# EAGLE library part 1X6 (library headers(2mm))
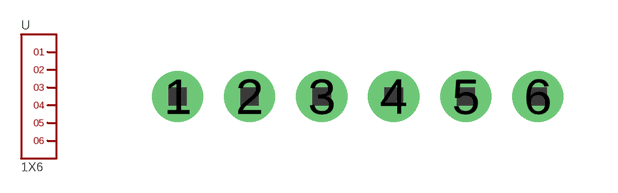
[diagram p0: symbol with the pads of 1X6; footprint 1X6]

Designator prefix -

## 1X6  [1X6]
1  1
2  2
3  3
4  4
5  5
6  6

## Footprint 1X6 (pad centres in mm)
drill 0.8 pad 1.422: 1 0,0; 2 2,0; 3 4,0; 4 6,0; 5 8,0; 6 10,0